# Altium schematic symbol library RS-7.SchLib: 1 symbol
Pins are listed as number, name and electrical type; pins without a type are passive.

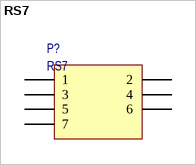
[diagram p0: symbol RS7]

## RS7
designator P?
footprint RS7
pins: 1, 2, 3, 4, 5, 6, 7